# EAGLE library part DF3-11 (library con-hirose)
Single row connector 2mm 11 way
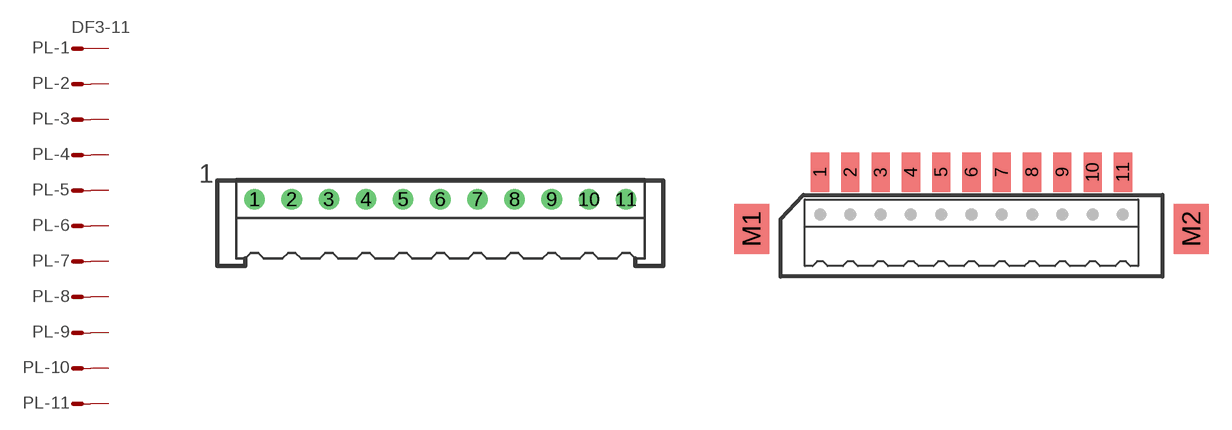
[diagram p11: symbol with the pads of DF3P-11; footprints DF3P-11, DF3DZ-11]

Designator prefix PL; gates -1=MV -2=M -3=M -4=M -5=M -6=M -7=M -8=M -9=M -10=M -11=M

## DF3-11P  [DF3P-11]
1  -1:S  pas
2  -2:S  pas
3  -3:S  pas
4  -4:S  pas
5  -5:S  pas
6  -6:S  pas
7  -7:S  pas
8  -8:S  pas
9  -9:S  pas
10  -10:S  pas
11  -11:S  pas

## DF3-11DZ  [DF3DZ-11]
Pads as for DF3P-11

## DF3-11R  [DF3R-11]
Pads as for DF3P-11

## Footprint DF3P-11 (pad centres in mm)
Single row connector 2mm 11 way
drill 0.6 round: 1 -10,1; 2 -8,1; 3 -6,1; 4 -4,1; 5 -2,1; 6 0,1; 7 2,1; 8 4,1; 9 6,1; 10 8,1; 11 10,1

## Footprint DF3DZ-11 (pad centres in mm)
Single row SMT connector 2mm 11 way
smd 1.2 x 2.6: 1 -10,4.1; 2 -8,4.1; 3 -6,4.1; 4 -4,4.1; 5 -2,4.1; 6 0,4.1; 7 2,4.1; 8 4,4.1; 9 6,4.1; 10 8,4.1; 11 10,4.1
smd 2.3 x 3.3: M1 -14.52,0.35; M2 14.52,0.35

## Footprint DF3R-11 (pad centres in mm)
Single row connector 2mm 11 way
drill 0.6 round: 1 -10,1.8; 2 -8,1.8; 3 -6,1.8; 4 -4,1.8; 5 -2,1.8; 6 0,1.8; 7 2,1.8; 8 4,1.8; 9 6,1.8; 10 8,1.8; 11 10,1.8